# Altium schematic symbol library CONSMA020.062-G.SchLib: 1 symbol
Pins are listed as number, name and electrical type; pins without a type are passive.

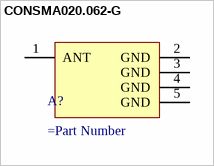
[diagram p0: symbol CONSMA020.062-G]

## CONSMA020.062-G
designator A?
=Description
pins: 1 ANT, 2 GND, 3 GND, 4 GND, 5 GND